# Altium footprint library ResistorsFootprints.PcbLib: 7 footprints
Each footprint in its own frame and in the unit in brackets; x right, y up, seen from the top. Pads: shape width x height; smd on the part's side, far side on the other; paste and mask are expansions set on the pad; w line width, h text height; cw(c..) or ccw(c..) is an arc to the next point about the centre after c.
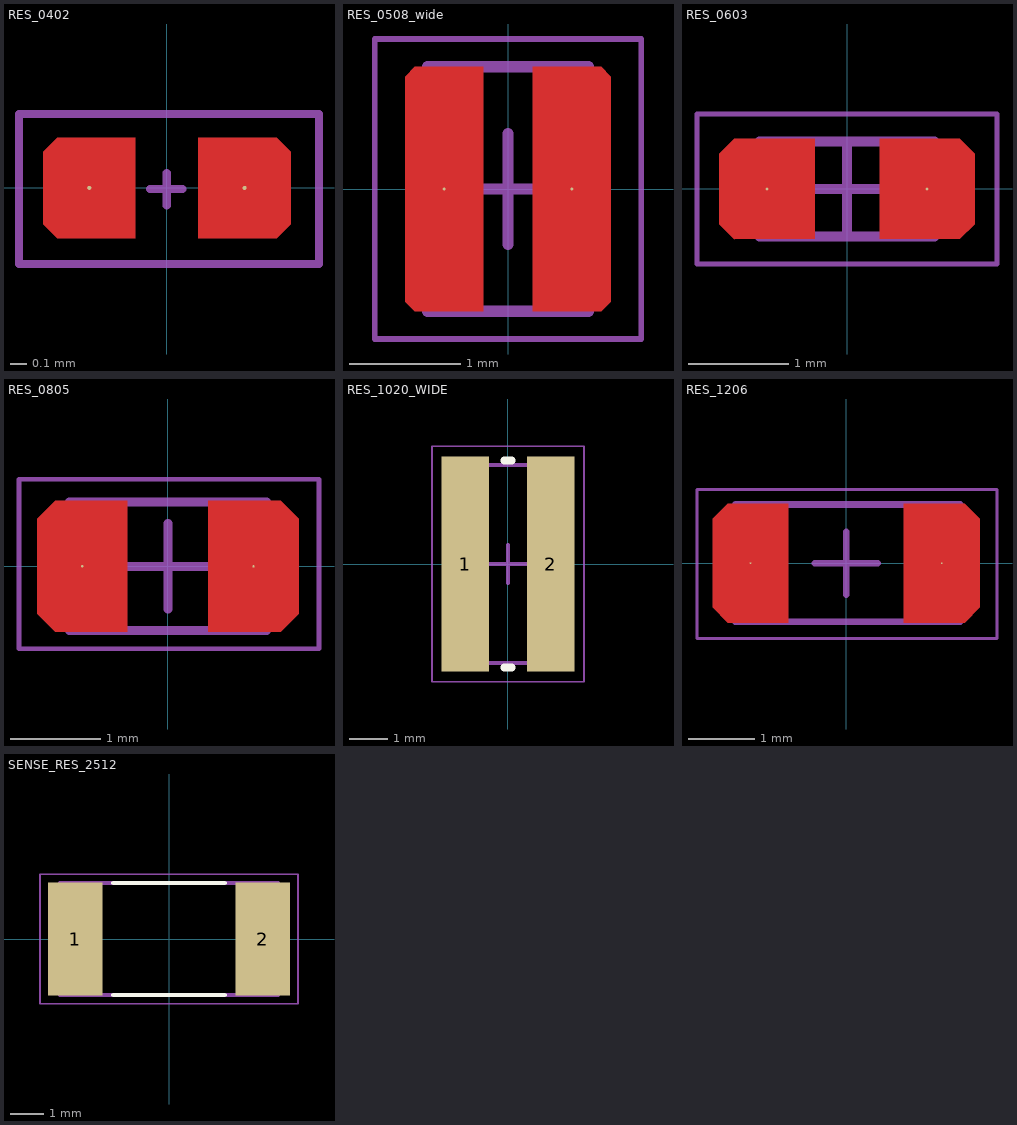
[diagram p0: the footprints below, top view; thin cyan lines are the x and y axes]

## RES_0402 [mil]
pads (2):
  round 1 smd mask+1.97: 1(-18.9,0) 2(18.9,0)
Top Layer:
  region: 7.68,-12.2 26.75,-12.2 30.12,-8.84 30.12,8.84 26.75,12.2 7.68,12.2
  region: -26.75,-12.2 -30.12,-8.84 -30.12,8.84 -26.75,12.2 -7.68,12.2 -7.68,-12.2
Mechanical 15:
  lines w1.97: -4.12,-0.22 3.75,-0.22 ; -0.04,-4.25 -0.04,3.63 ; -36,-18.54 37,-18.54 37,18 -36,18 -36,-18.54
3D body "CCS_CCSTDNOS_0402_L1.05W0.55T0.55B0.3.step": height 21.65, standoff 0, extent -21,-11 20.34,10.65

## RES_0508_wide [mil] "Chip Resistor, 2-Leads, Body 1.25x2.00mm, IPC Medium Density"
height 27.56
pads (2):
  round 1 smd: 1(-22.64,0) 2(22.64,0)
Top Layer:
  region: 8.86,-43.31 32.97,-43.31 36.42,-39.86 36.42,39.86 32.97,43.31 8.86,43.31
  region: -36.42,-39.86 -32.97,-43.31 -8.86,-43.31 -8.86,43.31 -32.97,43.31 -36.42,39.86
Mechanical 13:
  lines w3.94: -28.54,-43.31 28.54,-43.31 28.54,43.31 -28.54,43.31 -28.54,-43.31
Mechanical 15:
  lines w1.97: -47.24,-53.15 47.24,-53.15 47.24,53.15 -47.24,53.15 -47.24,-53.15
  lines w3.94: -19.68,0 19.68,0 ; 0,-19.68 0,19.69
3D body "RES_0508_wide.step": height 27.56, standoff 0, extent -28.54,-43.31 28.54,43.31

## RES_0603 [mil] "Chip Resistor, 2-Leads, Body 1.60x0.80mm, IPC Medium Density"
height 31.5
pads (2):
  round 1 smd: 1(-31.5,0) 2(31.5,0)
Top Layer:
  region: -50.2,-13.8 -50.2,13.8 -44.31,19.69 -12.8,19.69 -12.8,-19.69 -44.31,-19.69
  region: 12.8,-19.69 12.8,19.69 44.31,19.69 50.2,13.8 50.2,-13.8 44.31,-19.69
Mechanical 13:
  lines w3.94: -34.45,-18.7 -34.45,18.7 34.45,18.7 34.45,-18.7 -34.45,-18.7
Mechanical 15:
  lines w1.97: -59.06,-29.53 -59.06,29.53 59.06,29.53 59.06,-29.53 -59.06,-29.53
  lines w3.94: -18.7,0 18.7,0 ; 0,-18.7 0,18.7
3D body "User Library-CR1608-0603.step": height 17.72, standoff 0, extent -31.5,-15.75 31.5,15.75

## RES_0805 [mil]
pads (2):
  round 1 smd: 1(-37.4,0) 2(37.4,0)
Top Layer:
  region: -49.21,-28.54 -57.09,-20.67 -57.09,20.67 -49.21,28.54 -17.72,28.54 -17.72,-28.54
  region: 17.72,-28.54 49.21,-28.54 57.09,-20.67 57.09,20.67 49.21,28.54 17.72,28.54
Mechanical 13:
  lines w3.94: -43,-28 -43,28 43,28 43,-28 -43,-28
Mechanical 15:
  lines w1.97: -65,-36 -65,38 66,38 66,-36 -65,-36
  lines w3.94: -18.7,0 18.7,0 ; 0,-18.7 0,18.7
3D body "User Library-CR2012-0805.step": height 23.62, standoff 0, extent -39.37,-24.61 39.37,24.61

## RES_1020_WIDE [mm] "Chip Resistor, 2-Leads, Body 2.54x5.08mm, IPC Medium Density"
height 0.77
pads (2):
  rect 1.25x5.65 smd: 1(-1.125,0) 2(1.125,0)
Top Overlay:
  lines w0.2: -0.1,-2.725 0.1,-2.725 ; -0.1,2.725 0.1,2.725
Mechanical 13:
  lines w0.1: -1.395,-2.605 1.395,-2.605 1.395,2.605 -1.395,2.605 -1.395,-2.605
Mechanical 15:
  lines w0.05: -2,-3.1 2,-3.1 2,3.1 -2,3.1 -2,-3.1
  lines w0.1: -0.5,0 0.5,0 ; 0,-0.5 0,0.5
3D body "RES_1020_WIDE.step": height 0.76, standoff 0, extent -1.395,-2.605 1.395,2.605

## RES_1206 [mil]
pads (2):
  round 1 smd: 1(-57.09,0) 2(57.09,0)
Top Layer:
  region: -70.67,-35.43 -79.72,-26.38 -79.72,26.38 -70.67,35.43 -34.45,35.43 -34.45,-35.43
  region: 34.45,-35.43 70.67,-35.43 79.72,-26.38 79.72,26.38 70.67,35.43 34.45,35.43
Mechanical 13:
  lines w3.94: -66,-35 -66,35 68,35 68,-35 -66,-35
Mechanical 15:
  lines w1.97: -89,-45 -89,44 90,44 90,-45 -89,-45
  lines w3.94: -18.7,0 18.7,0 ; 0,-18.7 0,18.7
3D body "User Library-CR3216-1206.step": height 23.62, standoff 0, extent -61.99,-31.5 63.99,31.5

## SENSE_RES_2512 [mm]
pads (2):
  rect 1.65x3.42 smd: 1(-2.835,0) 2(2.835,0)
Top Overlay:
  lines w0.127: -1.69,-1.7 1.69,-1.7 ; -1.69,1.7 1.69,1.7
Mechanical 13:
  lines w0.127: -3.3,-1.7 3.3,-1.7 3.3,1.7 -3.3,1.7 -3.3,-1.7
Mechanical 15:
  lines w0.05: -3.908,-1.958 3.908,-1.958 3.908,1.958 -3.908,1.958 -3.908,-1.958
3D body "step_temp.STEP": height 0.8, standoff 0, extent -3.2,-1.6 3.2,1.6